# Altium footprint library RGBVdd connector.PcbLib: 1 footprints
Each footprint in its own frame and in the unit in brackets; x right, y up, seen from the top. Pads: shape width x height; smd on the part's side, far side on the other; paste and mask are expansions set on the pad; w line width, h text height; cw(c..) or ccw(c..) is an arc to the next point about the centre after c.
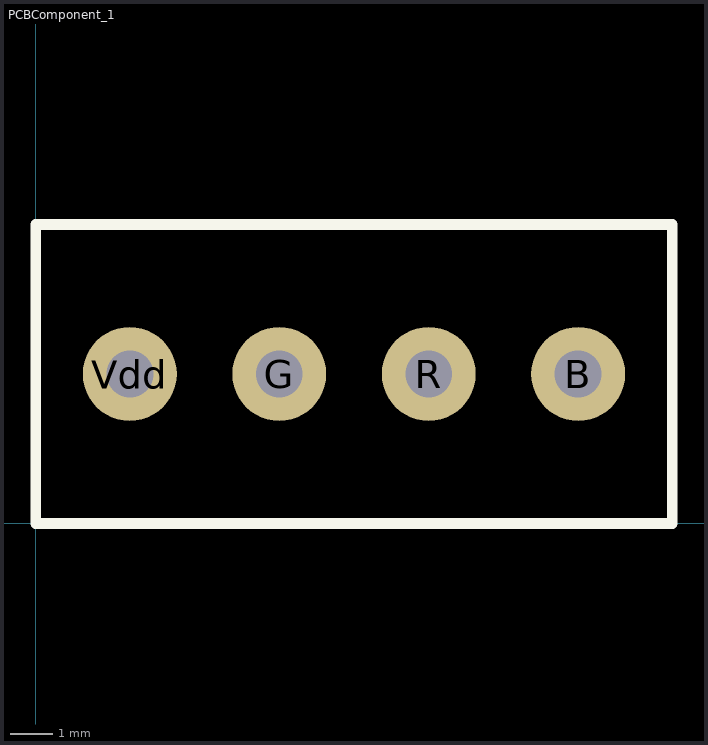
[diagram p0: the footprint, top view; thin cyan lines are the x and y axes]

## PCBComponent_1 [mm]
pads (4):
  round 2.2 hole 1.1 mask+0: B(12.7,3.5) G(5.7,3.5) R(9.2,3.5) Vdd(2.2,3.5)
Top Overlay:
  lines w0.254: 0,0 0,7 14.9,7 14.9,0 0,0